# EAGLE library part USB_SHIELDED (library mbed-connectors)
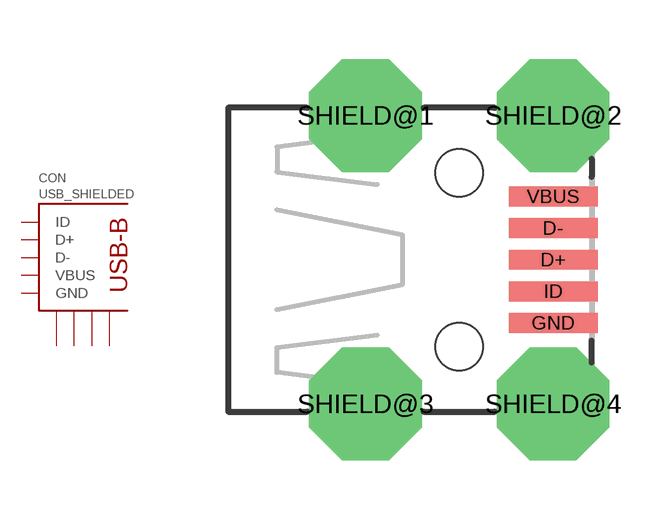
[diagram p7: symbol with the pads of 5075ABMR-05-SM1; footprint 5075ABMR-05-SM1]

Designator prefix CON

## USB_SHIELDED  [5075ABMR-05-SM1]
D+  D+
D-  D-
GND  GND
ID  ID
SHIELD@1  P$1
SHIELD@2  P$2
SHIELD@3  P$3
SHIELD@4  P$4
VBUS  VBUS

## Footprint 5075ABMR-05-SM1 (pad centres in mm)
Neltron 5075ABMR-05-SM1 Mini-USB 5-pin Female Connector
smd 2.25 x 0.5: D+ 2.375,0; D- 2.375,0.8; GND 2.375,-1.6; ID 2.375,-0.8; VBUS 2.375,1.6
drill 1.9 pad 2.5 octagon: SHIELD@1 -2.375,3.65; SHIELD@2 2.375,3.65; SHIELD@3 -2.375,-3.65; SHIELD@4 2.375,-3.65
hole 1.2 at 0,2.2
hole 1.2 at 0,-2.2